# Altium schematic symbol library BC856A_RFG.SchLib: 1 symbol
Pins are listed as number, name and electrical type; pins without a type are passive.

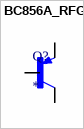
[diagram p0: symbol BC856A_RFG]

## BC856A_RFG
designator Q?
MP: BC856A_RFG; Package: None; Price: None; Value: *; Availability: Unavailable
footprint TRANS_BC856A_RFG
pins: 1 B, 2 E, 3 C